# Altium schematic symbol library MCU.SCHLIB: 39 symbols
Pins are listed as number, name and electrical type; pins without a type are passive.

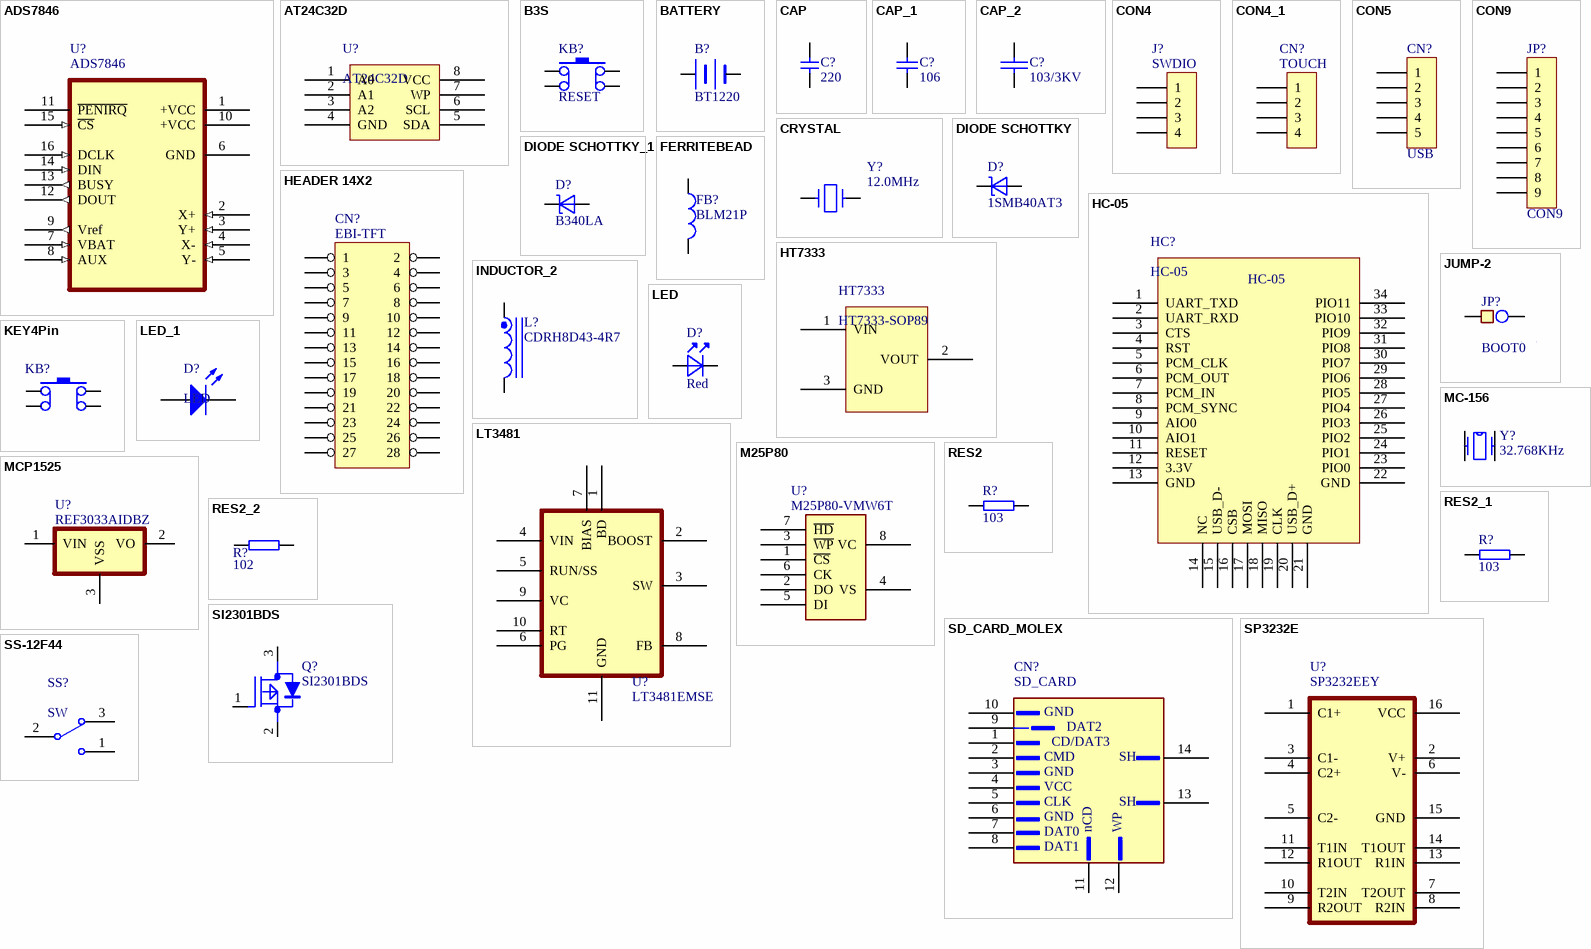
[diagram p0: symbols ADS7846 to SS-12F44]

## ADS7846
designator U?
TI TOUCH SCREEN CONTROLLER
footprint TSSOP-16
footprint SSOP-16
footprint QFN-16
pins: 1 +VCC (power), 2 X+ (in), 3 Y+ (in), 4 X- (in), 5 Y- (in), 6 GND (power), 7 VBAT (in), 8 AUX (in), 9 Vref (out), 10 +VCC (power), 11 ~{PENIRQ} (oc), 12 DOUT (out), 13 BUSY (out), 14 DIN (in), 15 ~{CS} (in), 16 DCLK (in)

## AT24C32D
designator U?
EEPROM, 32K
footprint AT24C32D-SOIC127P600X175-8N (SOIC, 8-Leads, Body 4.92x3.90mm, Pitch 1.27mm, IPC Medium Density)
pins: 1 A0, 2 A1, 3 A2, 4 GND, 5 SDA, 6 SCL, 7 WP, 8 VCC

## B3S
designator KB?, comment RESET
REV: *; REF: *; DESIG: *; BOI: *; FAB: *; DEV: *; VAL: *
footprint B3F
footprint JC5
footprint KB2
footprint KB1
pins: 1 T1, 2 T2, 3 T3, 4 T4
2 alternate drawings of the same symbol

## BATTERY
designator B?, comment BT1220
Battery
footprint BT1220
pins: 1 +, 2 +, 3 -, 4 -

## CAP
designator C?, comment 220
Ceramic Capacitor
footprint 0805
footprint 0603
pins: 1, 2

## CAP_1
designator C?, comment 106
Capacitor
footprint 0805
footprint 0603
pins: 1, 2

## CAP_2
designator C?, comment 103/3KV
Capacitor
footprint 0603
footprint 0805
footprint 1206
footprint RAD0.2
pins: 1, 2

## CON4
designator J?, comment SWDIO
Connector
footprint SIP4
pins: 1, 2, 3, 4

## CON4_1
designator CN?, comment TOUCH
Connector
footprint SIP4S
pins: 1, 2, 3, 4

## CON5
designator CN?, comment USB
Connector
footprint SIP5S2
pins: 1, 2, 3, 4, 5

## CON9
designator JP?
Connector
footprint JT_HOLE
pins: 1, 2, 3, 4, 5, 6, 7, 8, 9

## CRYSTAL
designator Y?, comment 12.0MHz
Crystal  220 X 126 mil 2-pin
footprint BC03
pins: 1, 2
2 alternate drawings of the same symbol

## DIODE SCHOTTKY
designator D?, comment 1SMB40AT3
footprint SMB
pins: 1, 2

## DIODE SCHOTTKY_1
designator D?, comment B340LA
footprint SMA
pins: 1, 2

## FERRITEBEAD
designator FB?, comment BLM21P
Ferrite Bead 1000@100MHz
footprint 0805
pins: 1, 2

## HC-05
designator HC?
footprint HC-05 (HC-05 board pad information  13mm * 18mm)
pins: 1 UART_TXD "TXD", 2 UART_RXD "RXD", 3 CTS, 4 RST "RTS", 5 PCM_CLK, 6 PCM_OUT, 7 PCM_IN, 8 PCM_SYNC, 9 AIO0, 10 AIO1, 11 RESET, 12 3.3V, 13 GND, 14 NC "GND", 15 USB_D-, 16 CSB, 17 MOSI, 18 MISO, 19 CLK, 20 USB_D+, 21 GND, 22 GND, 23 PIO0, 24 PIO1, 25 PIO2, 26 PIO3, 27 PIO4, 28 PIO5, 29 PIO6, 30 PIO7, 31 PIO8, 32 PIO9, 33 PIO10, 34 PIO11

## HEADER 14X2
designator CN?, comment EBI-TFT
footprint FKV28SN
pins: 1, 2, 3, 4, 5, 6, 7, 8, 9, 10, 11, 12, 13, 14, 15, 16, 17, 18, 19, 20, 21, 22, 23, 24, 25, 26, 27, 28

## HT7333
designator HT7333, comment HT7333-SOP89
footprint HT7333-SOT89 (SOT89, 3-Leads, Body 4.5x2.4mm (max), Pitch 1.50mm, Lead Span 3.5mm, IPC Medium Density); pin to pad 1>2 2>3 3>1
pins: 1 VIN (power), 2 VOUT (power), 3 GND (power)

## INDUCTOR_2
designator L?, comment CDRH8D43-4R7
SUMIDA CDRH4D28 Series Inductor
footprint CDRH4D28
footprint L06
pins: 1, 2

## JUMP-2
designator JP?, comment BOOT0
DEV: *; FAB: *; TEMP: *; BOI: *; DESIG: *; REF: *; REV: *; VAL: *
footprint SIP-2
footprint SIP2
pins: 1, 2
2 alternate drawings of the same symbol

## KEY4Pin
designator KB?
REV: *; REF: *; DESIG: *; BOI: *; FAB: *; DEV: *; VAL: *
footprint KEY4Pin (SOP, 4-Leads, Body 6.0x6.0mm (max), Pitch 4.50mm, IPC Medium Density); pin to pad 2>4 4>2
pins: 1 T1, 2 T2, 3 T3, 4 T4
2 alternate drawings of the same symbol

## LED
designator D?, comment Red
0805 LED
footprint LED-0805
footprint LED-F3
footprint TL231
pins: 1, 2

## LED_1
designator D?, comment LED
pins: 1 A, 2 K

## LT3481
designator U?, comment LT3481EMSE
LINEAR 36V, 2A, 2.8MHz Step-Down Switching Regulator with 50μA Quiescent Current
footprint LT3481EMSE
footprint DFN-10
footprint MSOP-10
footprint LT3680EMSE
pins: 1 BD, 2 BOOST, 3 SW, 4 VIN, 5 RUN/SS, 6 PG, 7 BIAS, 8 FB, 9 VC, 10 RT, 11 GND
2 alternate drawings of the same symbol

## M25P80
designator U?, comment M25P80-VMW6T
ST 8 Mbit, Low Voltage, Serial Flash Memory  With 25 MHz SPI Bus Interface; REV: *; DEV: *; FAB: *; BOI: *; DESIG: *; REF: *; TEN: *; VAL: *; RoHS: *
footprint SO-8
pins: 1 ~{CS}, 2 DO, 3 ~{WP}, 4 VS, 5 DI, 6 CK, 7 ~{HD}, 8 VC
2 alternate drawings of the same symbol

## MC-156
designator Y?, comment 32.768KHz
Crystal EA84 32.768KHz
footprint MC-156
pins: 1, 2, 3, 4
2 alternate drawings of the same symbol

## MCP1525
designator U?, comment REF3033AIDBZ
MICROCHIP  Low Noise Micropower Precision Voltage References
footprint SOT-23
footprint TO-92
pins: 1 VIN, 2 VO, 3 VSS (power)

## RES2
designator R?, comment 103
Resistor
footprint 0603
footprint 0805
footprint 0402
pins: 1, 2

## RES2_1
designator R?, comment 103
Resistor
footprint 0603
footprint 0805
pins: 1, 2

## RES2_2
designator R?, comment 102
footprint 0805
footprint 0603
pins: 1, 2

## SD_CARD_MOLEX
designator CN?, comment SD_CARD
footprint MOLEX-67600-8001
pins: 1, 2, 3, 4, 5, 6, 7, 8, 9, 10, 11, 12, 13, 14
text: GND; DAT2; CD/DAT3; CMD; SH; VCC; CLK; nCD; WP; DAT0; DAT1

## SI2301BDS
designator Q?
footprint SOT-23
pins: 1 G, 2 S, 3 D

## SP3232E
designator U?, comment SP3232EEY
True +3.0V to +5.5V RS-232 Transceivers
footprint TSSOP-16
pins: 1 C1+, 2 V+, 3 C1-, 4 C2+, 5 C2-, 6 V-, 7 T2OUT, 8 R2IN, 9 R2OUT, 10 T2IN, 11 T1IN, 12 R1OUT, 13 R1IN, 14 T1OUT, 15 GND, 16 VCC

## SS-12F44
designator SS?, comment SW
拨动开关 SS-12F44 二挡立式 1P2T SS12F44G5 滑动开关
footprint SS-12F44 (SS-12F44 二挡立式 1P2T SS12F44G5 滑动开关)
pins: 1, 2, 3

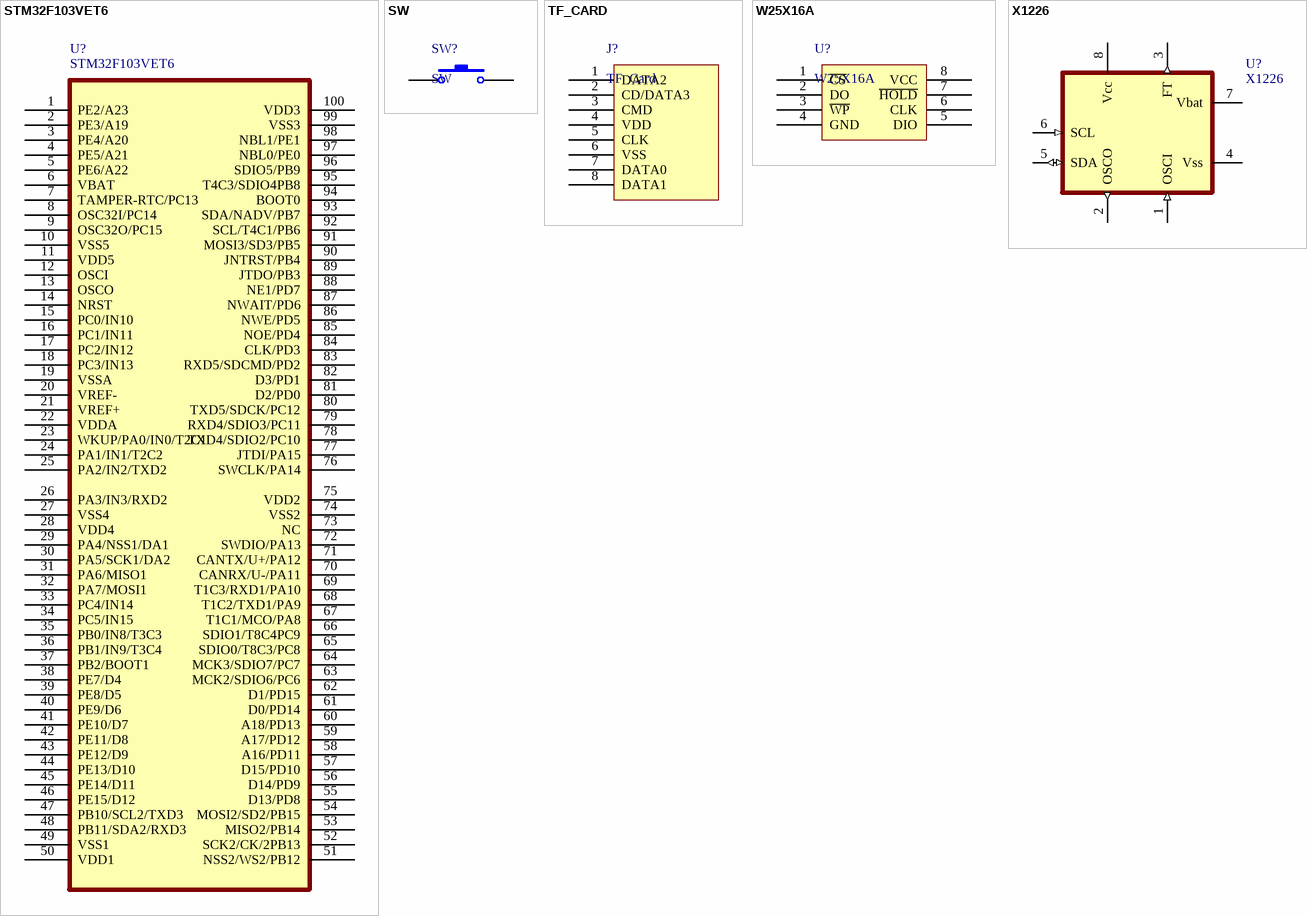
[diagram p1: symbols STM32F103VET6 to X1226]

## STM32F103VET6
designator U?
ST High-density performance line ARM-based 32-bit MCU with 256 to  512KB Flash, USB, CAN, 11 timers, 3 ADCs, 13 communication interfaces
footprint TQFP100-2
pins: 1 PE2/A23, 2 PE3/A19, 3 PE4/A20, 4 PE5/A21, 5 PE6/A22, 6 VBAT, 7 TAMPER-RTC/PC13, 8 OSC32I/PC14, 9 OSC32O/PC15, 10 VSS5, 11 VDD5, 12 OSCI, 13 OSCO, 14 NRST, 15 PC0/IN10, 16 PC1/IN11, 17 PC2/IN12, 18 PC3/IN13, 19 VSSA, 20 VREF-, 21 VREF+, 22 VDDA, 23 WKUP/PA0/IN0/T2C1, 24 PA1/IN1/T2C2, 25 PA2/IN2/TXD2, 26 PA3/IN3/RXD2, 27 VSS4, 28 VDD4, 29 PA4/NSS1/DA1, 30 PA5/SCK1/DA2, 31 PA6/MISO1, 32 PA7/MOSI1, 33 PC4/IN14, 34 PC5/IN15, 35 PB0/IN8/T3C3, 36 PB1/IN9/T3C4, 37 PB2/BOOT1, 38 PE7/D4, 39 PE8/D5, 40 PE9/D6, 41 PE10/D7, 42 PE11/D8, 43 PE12/D9, 44 PE13/D10, 45 PE14/D11, 46 PE15/D12, 47 PB10/SCL2/TXD3, 48 PB11/SDA2/RXD3, 49 VSS1, 50 VDD1, 51 NSS2/WS2/PB12, 52 SCK2/CK/2PB13, 53 MISO2/PB14, 54 MOSI2/SD2/PB15, 55 D13/PD8, 56 D14/PD9, 57 D15/PD10, 58 A16/PD11, 59 A17/PD12, 60 A18/PD13, 61 D0/PD14, 62 D1/PD15, 63 MCK2/SDIO6/PC6, 64 MCK3/SDIO7/PC7, 65 SDIO0/T8C3/PC8, 66 SDIO1/T8C4PC9, 67 T1C1/MCO/PA8, 68 T1C2/TXD1/PA9, 69 T1C3/RXD1/PA10, 70 CANRX/U-/PA11, 71 CANTX/U+/PA12, 72 SWDIO/PA13, 73 NC, 74 VSS2, 75 VDD2, 76 SWCLK/PA14, 77 JTDI/PA15, 78 TXD4/SDIO2/PC10, 79 RXD4/SDIO3/PC11, 80 TXD5/SDCK/PC12, 81 D2/PD0, 82 D3/PD1, 83 RXD5/SDCMD/PD2, 84 CLK/PD3, 85 NOE/PD4, 86 NWE/PD5, 87 NWAIT/PD6, 88 NE1/PD7, 89 JTDO/PB3, 90 JNTRST/PB4, 91 MOSI3/SD3/PB5, 92 SCL/T4C1/PB6, 93 SDA/NADV/PB7, 94 BOOT0, 95 T4C3/SDIO4PB8, 96 SDIO5/PB9, 97 NBL0/PE0, 98 NBL1/PE1, 99 VSS3, 100 VDD3

## SW
designator SW?
KEY
pins: 1, 2

## TF_CARD
designator J?, comment TF_Card
footprint MicroSD (very tiny MicroSD CARD)
pins: 1 DATA2, 2 CD/DATA3, 3 CMD, 4 VDD, 5 CLK, 6 VSS, 7 DATA0, 8 DATA1

## W25X16A
designator U?
W25X16A, Serial Flash, 16M-bit, 2M-Byte
footprint W25X16A-SOIC127P780X216-8N (SOIC, 8-Leads, Body 5.25x3.73mm, Pitch 1.27mm, IPC Medium Density)
pins: 1 ~{CS}, 2 DO, 3 ~{WP}, 4 GND, 5 DIO, 6 CLK, 7 ~{HOLD}, 8 VCC

## X1226
designator U?
XICOR Real Time Clock/Calendar with EEPROM
footprint SO-8
pins: 1 OSCI (in), 2 OSCO (out), 3 FT (out), 4 Vss (power), 5 SDA (io), 6 SCL (in), 7 Vbat (power), 8 Vcc (power)
2 alternate drawings of the same symbol